# Altium footprint library 1984785.PcbLib: 1 footprints
Each footprint in its own frame and in the unit in brackets; x right, y up, seen from the top. Pads: shape width x height; smd on the part's side, far side on the other; paste and mask are expansions set on the pad; w line width, h text height; cw(c..) or ccw(c..) is an arc to the next point about the centre after c.
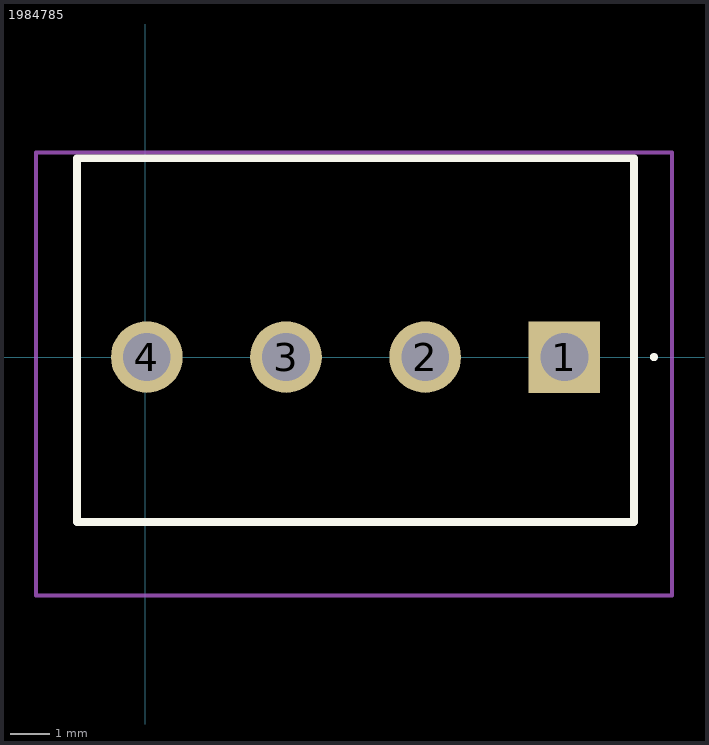
[diagram p0: the footprint, top view; thin cyan lines are the x and y axes]

## 1984785 [mm]
pads (4):
  rect 1.8x1.8 hole 1.2: 1(10.541,0)
  round 1.8 hole 1.2: 2(7.041,0) 3(3.541,0) 4(0.041,0)
Top Overlay:
  lines w0.1: 12.741,0 ccw(c12.791,0) 12.841,0 ccw(c12.791,0) 12.741,0
  lines w0.2: -1.709,-4.15 -1.709,5 12.291,5 12.291,-4.15 -1.709,-4.15
Mechanical 15:
  lines w0.1: -1.709,-4.15 12.291,-4.15 12.291,5 -1.709,5 -1.709,-4.15
Mechanical 20:
  lines w0.1: -2.75,-6 -2.75,5.15 13.25,5.15 13.25,-6 -2.75,-6
3D body "1984785.stp": height 7.55, standoff -4.5, extent -1.889,-4.07 12.811,5.08